# Altium schematic symbol library BianyaQi.SchLib: 2 symbols
Pins are listed as number, name and electrical type; pins without a type are passive.

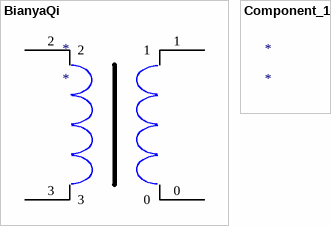
[diagram p0: symbols BianyaQi to Component_1]

## BianyaQi
designator *
pins: 0, 1, 2, 3

## Component_1
designator *